# Altium schematic symbol library BM92A30.SchLib: 1 symbol
Pins are listed as number, name and electrical type; pins without a type are passive.

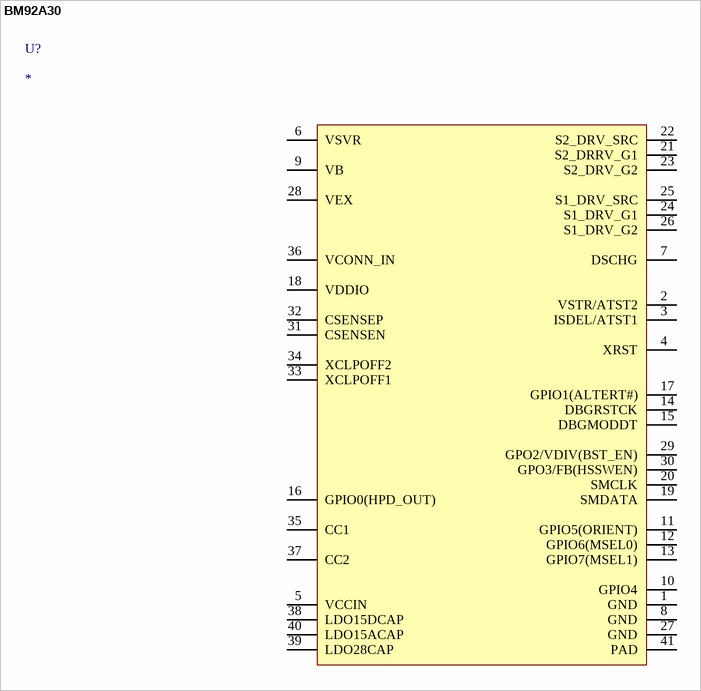
[diagram p0: symbol BM92A30]

## BM92A30
designator U?
pins: 1 GND, 2 VSTR/ATST2, 3 ISDEL/ATST1, 4 XRST, 5 VCCIN, 6 VSVR, 7 DSCHG, 8 GND, 9 VB, 10 GPIO4, 11 GPIO5(ORIENT), 12 GPIO6(MSEL0), 13 GPIO7(MSEL1), 14 DBGRSTCK, 15 DBGMODDT, 16 GPIO0(HPD_OUT), 17 GPIO1(ALTERT#), 18 VDDIO, 19 SMDATA, 20 SMCLK, 21 S2_DRRV_G1, 22 S2_DRV_SRC, 23 S2_DRV_G2, 24 S1_DRV_G1, 25 S1_DRV_SRC, 26 S1_DRV_G2, 27 GND, 28 VEX, 29 GPO2/VDIV(BST_EN), 30 GPO3/FB(HSSWEN), 31 CSENSEN, 32 CSENSEP, 33 XCLPOFF1, 34 XCLPOFF2, 35 CC1, 36 VCONN_IN, 37 CC2, 38 LDO15DCAP, 39 LDO28CAP, 40 LDO15ACAP, 41 PAD